# Altium footprint library PCB_Marking_Lib.PcbLib: 70 footprints (part 5 of 5)
Each footprint in its own frame and in the unit in brackets; x right, y up, seen from the top. Pads: shape width x height; smd on the part's side, far side on the other; paste and mask are expansions set on the pad; w line width, h text height; cw(c..) or ccw(c..) is an arc to the next point about the centre after c.
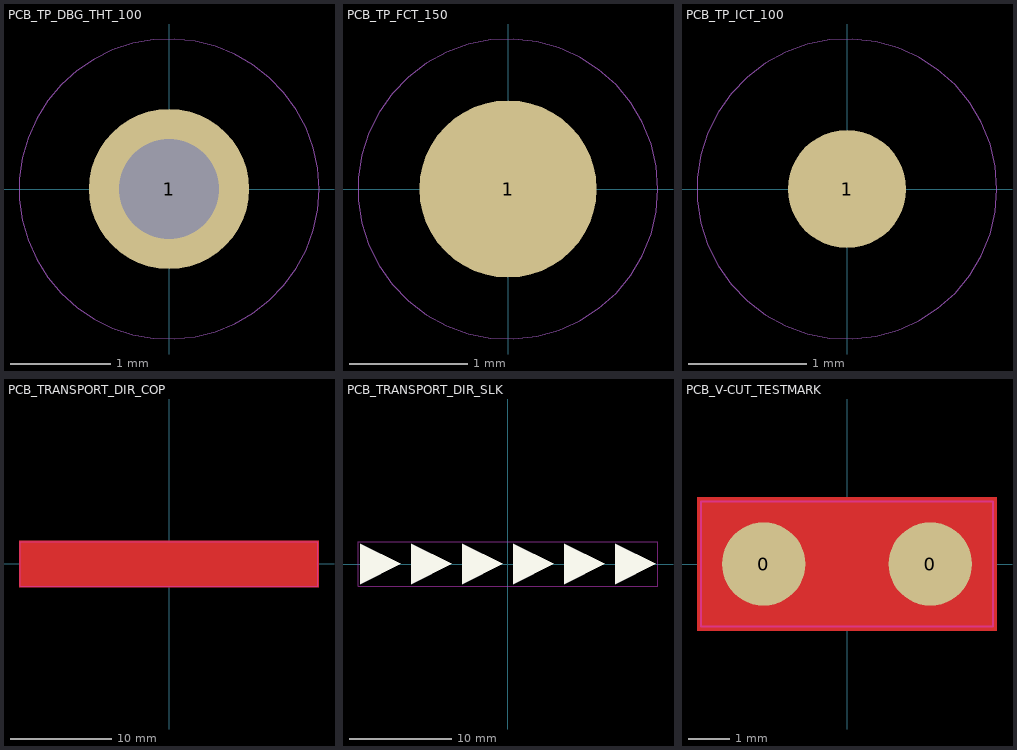
[diagram p4: the footprints below, top view; thin cyan lines are the x and y axes]

## PCB_TP_DBG_THT_100 [mm] "testpoint"
pads (1):
  round 1.6 hole 1: 1(0,0)
Mechanical 27:
  circle w0.01: c0,0 r1.5
  text ".Designator" at -0.6,-0.2 h0.5

## PCB_TP_FCT_150 [mm] "testpoint"
pads (1):
  round 1.5 smd paste-10: 1(0,0)
Mechanical 27:
  circle w0.01: c0,0 r1.27
  text ".Designator" at -0.6,-0.2 h0.5

## PCB_TP_ICT_100 [mm] "testpoint"
pads (1):
  round 1 smd paste-10: 1(0,0)
Mechanical 27:
  circle w0.01: c0,0 r1.27
  text ".Designator" at -0.6,-0.2 h0.5

## PCB_TRANSPORT_DIR_COP [mm]
Top Layer:
  pour cut-out: 14.8,2.3 -14.8,2.3 -14.8,-2.3 14.8,-2.3
  region: -14.5,-2 -14.5,2 -10.5,0
  region: -9.5,-2 -9.5,2 -5.5,0
  region: -4.5,-2 -4.5,2 -0.5,0
  region: 0.5,-2 0.5,2 4.5,0
  region: 5.5,-2 5.5,2 9.5,0
  region: 10.5,-2 10.5,2 14.5,0
Keep-Out Layer:
  lines w0.05: -14.7,-2.2 -14.7,2.2 14.7,2.2 14.7,-2.2 -14.7,-2.2

## PCB_TRANSPORT_DIR_SLK [mm]
Top Overlay:
  region: 10.525,-1.975 10.525,2.025 14.525,0.025
  region: 5.525,-1.975 5.525,2.025 9.525,0.025
  region: 0.525,-1.975 0.525,2.025 4.525,0.025
  region: -4.475,-1.975 -4.475,2.025 -0.475,0.025
  region: -9.475,-1.975 -9.475,2.025 -5.475,0.025
  region: -14.475,-1.975 -14.475,2.025 -10.475,0.025
Keep-Out Layer:
  lines w0.05: -14.675,-2.175 -14.675,2.225 14.725,2.225 14.725,-2.175 -14.675,-2.175

## PCB_V-CUT_TESTMARK [mm]
pads (2):
  round 2 smd paste-10 mask+0.2: 0(-2,0) 0(2,0)
Top Layer:
  pour cut-out: 3.6,1.6 -3.6,1.6 -3.6,-1.6 3.6,-1.6
  lines w0.25: -2,0 2,0
Top Layer keep-out:
  lines w0.05: -3.5,-1.5 -3.5,1.5 3.5,1.5 3.5,-1.5 -3.5,-1.5